# Altium footprint library RPX-1.5-R.PcbLib: 1 footprints
Each footprint in its own frame and in the unit in brackets; x right, y up, seen from the top. Pads: shape width x height; smd on the part's side, far side on the other; paste and mask are expansions set on the pad; w line width, h text height; cw(c..) or ccw(c..) is an arc to the next point about the centre after c.
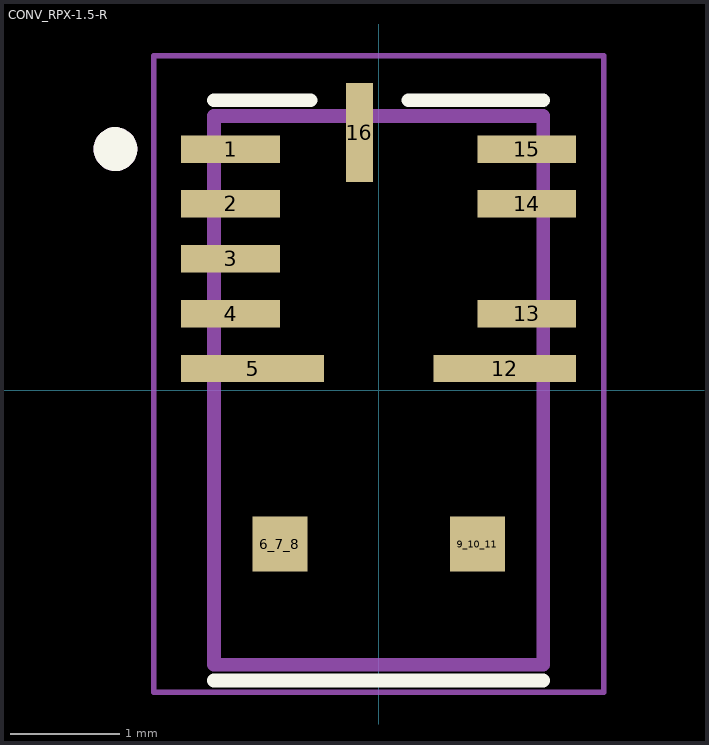
[diagram p0: the footprint, top view; thin cyan lines are the x and y axes]

## CONV_RPX-1.5-R [mm]
pads (12):
  rect 0.9x0.25 smd: 1(-1.35,2.2) 2(-1.35,1.7) 3(-1.35,1.2) 4(-1.35,0.7) 13(1.35,0.7) 14(1.35,1.7) 15(1.35,2.2)
  rect 1.3x0.25 smd: 5(-1.15,0.2) 12(1.15,0.2)
  rect 0.5x0.5 smd paste-1 mask+0: 6_7_8(-0.9,-1.4) 9_10_11(0.9,-1.4)
  rect 0.25x0.9 smd: 16(-0.175,2.35)
Top Overlay:
  circle w0.2: c-2.4,2.2 r0.1
  lines w0.127: -1.5,-2.645 1.5,-2.645 ; -1.5,2.645 -0.62,2.645 ; 0.27,2.645 1.5,2.645
Mechanical 13:
  circle w0.2: c-2.4,2.2 r0.1
  lines w0.127: -1.5,-2.5 1.5,-2.5 1.5,2.5 -1.5,2.5 -1.5,-2.5
Mechanical 15:
  lines w0.05: -2.05,-2.75 2.05,-2.75 2.05,3.05 -2.05,3.05 -2.05,-2.75
3D body "step_temp.STEP": height 13.08, standoff 8.08, extent 16.45,-1.5 19.45,0.1